# EAGLE library part M38513(42PIN) (library renesas_mcu)
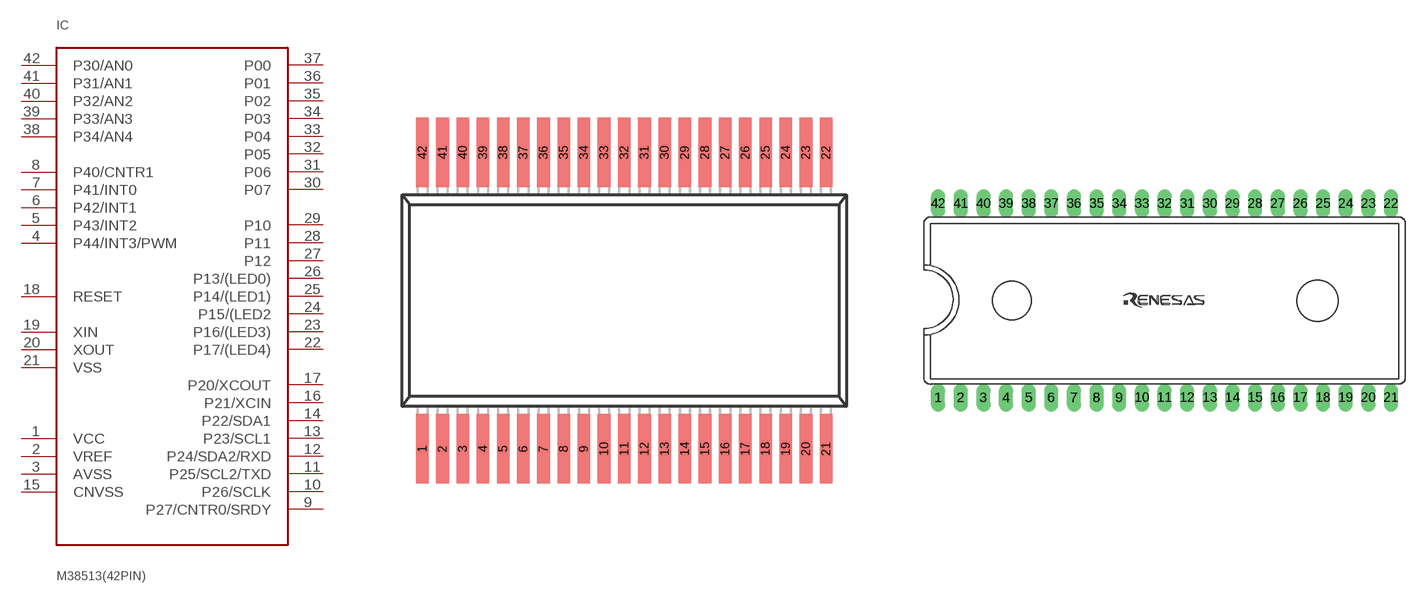
[diagram p64: symbol with the pads of 42P2R-A; footprints 42P2R-A, 42P4B]

Designator prefix IC

## M38513(42PIN)FP  [42P2R-A]
1  VCC
2  VREF
3  AVSS
4  P44/INT3/PWM
5  P43/INT2
6  P42/INT1
7  P41/INT0
8  P40/CNTR1
9  P27/CNTR0/SRDY
10  P26/SCLK
11  P25/SCL2/TXD
12  P24/SDA2/RXD
13  P23/SCL1
14  P22/SDA1
15  CNVSS
16  P21/XCIN
17  P20/XCOUT
18  RESET
19  XIN
20  XOUT
21  VSS
22  P17/(LED4)
23  P16/(LED3)
24  P15/(LED2
25  P14/(LED1)
26  P13/(LED0)
27  P12
28  P11
29  P10
30  P07
31  P06
32  P05
33  P04
34  P03
35  P02
36  P01
37  P00
38  P34/AN4
39  P33/AN3
40  P32/AN2
41  P31/AN1
42  P30/AN0

## M38513(42PIN)SP  [42P4B]
Pads as for 42P2R-A

## Footprint 42P2R-A (pad centres in mm)
smd 0.5 x 2.75: 1 -8,-5.875; 2 -7.2,-5.875; 3 -6.4,-5.875; 4 -5.6,-5.875; 5 -4.8,-5.875; 6 -4,-5.875; 7 -3.2,-5.875; 8 -2.4,-5.875; 9 -1.6,-5.875; 10 -0.8,-5.875; 11 0,-5.875; 12 0.8,-5.875; 13 1.6,-5.875; 14 2.4,-5.875; 15 3.2,-5.875; 16 4,-5.875; 17 4.8,-5.875; 18 5.6,-5.875; 19 6.4,-5.875; 20 7.2,-5.875; 21 8,-5.875; 22 8,5.875; 23 7.2,5.875; 24 6.4,5.875; 25 5.6,5.875; 26 4.8,5.875; 27 4,5.875; 28 3.2,5.875; 29 2.4,5.875; 30 1.6,5.875; 31 0.8,5.875; 32 0,5.875; 33 -0.8,5.875; 34 -1.6,5.875; 35 -2.4,5.875; 36 -3.2,5.875; 37 -4,5.875; 38 -4.8,5.875; 39 -5.6,5.875; 40 -6.4,5.875; 41 -7.2,5.875; 42 -8,5.875

## Footprint 42P4B (pad centres in mm)
drill 0.61 long: 1 -17.78,-7.62; 2 -16.002,-7.62; 3 -14.224,-7.62; 4 -12.446,-7.62; 5 -10.668,-7.62; 6 -8.89,-7.62; 7 -7.112,-7.62; 8 -5.334,-7.62; 9 -3.556,-7.62; 10 -1.778,-7.62; 11 0,-7.62; 12 1.778,-7.62; 13 3.556,-7.62; 14 5.334,-7.62; 15 7.112,-7.62; 16 8.89,-7.62; 17 10.668,-7.62; 18 12.446,-7.62; 19 14.224,-7.62; 20 16.002,-7.62; 21 17.78,-7.62; 22 17.78,7.62; 23 16.002,7.62; 24 14.224,7.62; 25 12.446,7.62; 26 10.668,7.62; 27 8.89,7.62; 28 7.112,7.62; 29 5.334,7.62; 30 3.556,7.62; 31 1.778,7.62; 32 0,7.62; 33 -1.778,7.62; 34 -3.556,7.62; 35 -5.334,7.62; 36 -7.112,7.62; 37 -8.89,7.62; 38 -10.668,7.62; 39 -12.446,7.62; 40 -14.224,7.62; 41 -16.002,7.62; 42 -17.78,7.62